# Altium footprint library JLC_25.PcbLib: 76 footprints (part 5 of 5)
Each footprint in its own frame and in the unit in brackets; x right, y up, seen from the top. Pads: shape width x height; smd on the part's side, far side on the other; paste and mask are expansions set on the pad; w line width, h text height; cw(c..) or ccw(c..) is an arc to the next point about the centre after c.
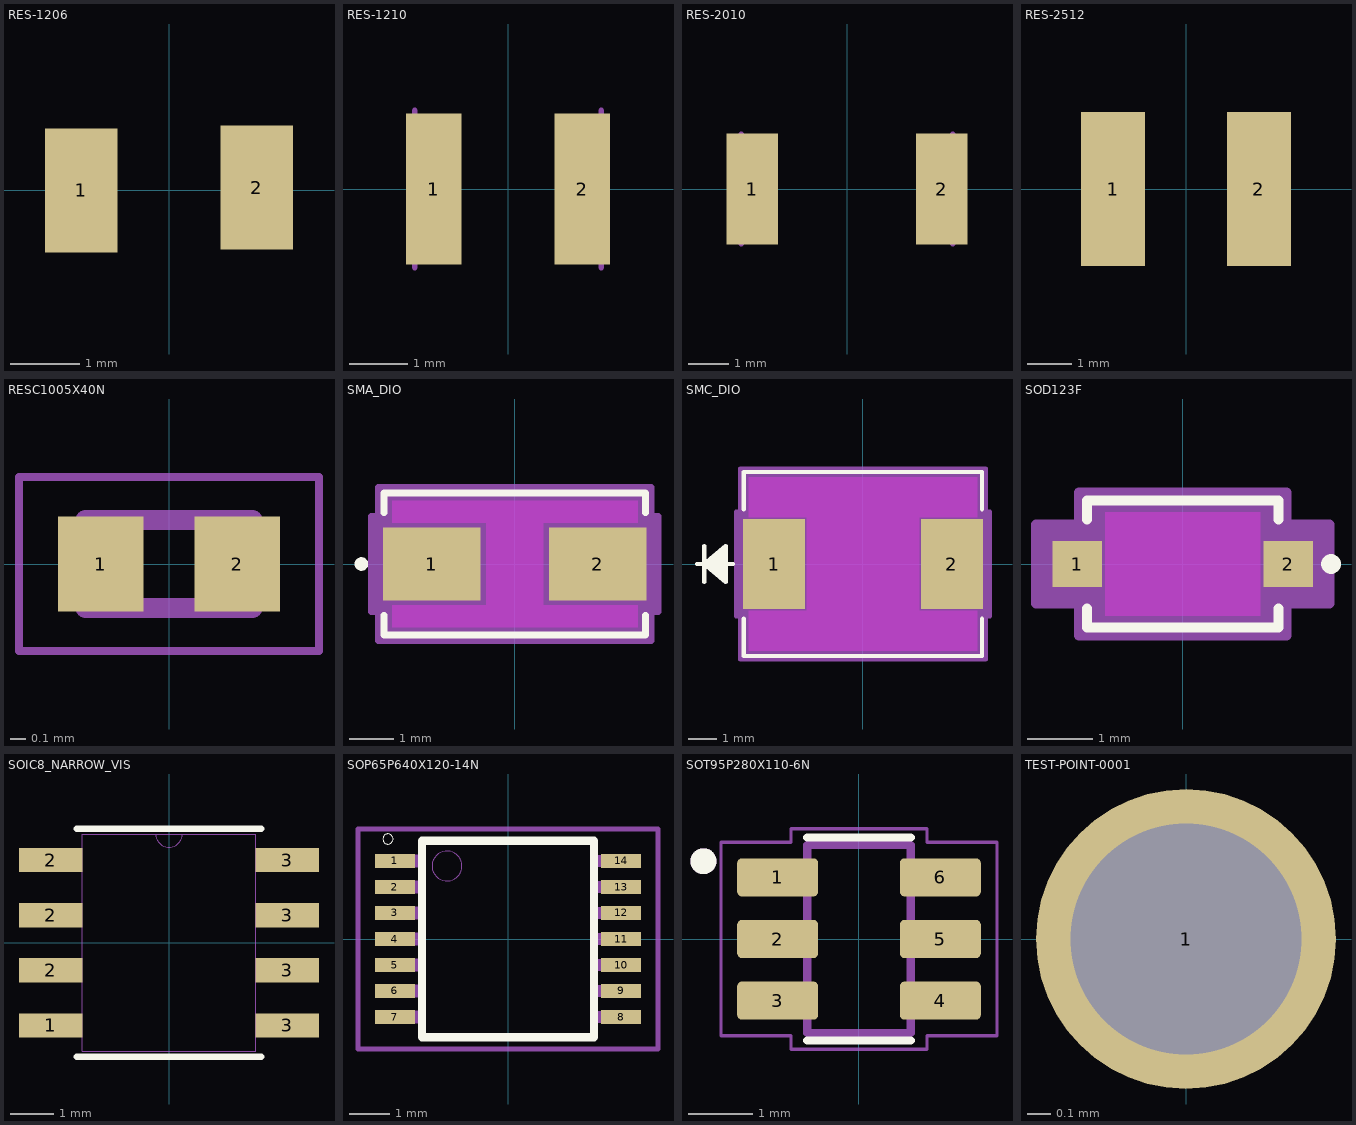
[diagram p4: the footprints below, top view; thin cyan lines are the x and y axes]

## RES-1206 [mm]
pads (2):
  rect 1.05x1.8 smd: 1(-1.275,0) 2(1.275,0.043)
3D body "D25-CRCW1206-IF e3.stp": height 0.55, standoff 0, extent -1.6,-0.775 1.6,0.825

## RES-1210 [mm] "Chip Resistor, 2-Leads, Body 3.10x2.60mm, IPC High Density"
height 0.6
pads (2):
  rect 0.95x2.6 smd: 1(-1.275,0) 2(1.275,0)
Mechanical 13:
  lines w0.1: -1.6,-1.35 -1.6,1.35 ; 1.6,-1.35 1.6,1.35
3D body: height 0.6, standoff 0, extent 1.1,-1.35 1.6,1.35
3D body: height 0.6, standoff 0, extent -1.6,-1.35 -1.1,1.35
3D body: height 0.6, standoff 0, extent -1.1,-1.35 1.1,1.35

## RES-2010 [mm]
pads (2):
  rect 1.26x2.72 smd: 1(-2.325,0) 2(2.325,0)
Mechanical 13:
  lines w0.127: -2.6,-1.35 -2.6,1.35 ; 2.6,-1.35 2.6,1.35
3D body "CR2010-JW-101ELF.STEP": height 0.7, standoff 0, extent -2.5,-1.25 2.5,1.25

## RES-2512 [mm]
pads (2):
  rect 1.45x3.5 smd: 1(-1.65,0) 2(1.65,0)

## RESC1005X40N [mm]
pads (2):
  rect 0.54x0.6 smd: 1(-0.432,0) 2(0.432,0)
Mechanical 13:
  lines w0.127: -0.53,-0.28 0.53,-0.28 0.53,0.28 -0.53,0.28 -0.53,-0.28
Mechanical 15:
  lines w0.05: -0.95,-0.55 0.95,-0.55 0.95,0.55 -0.95,0.55 -0.95,-0.55

## SMA_DIO [mm]
pads (2):
  rect 2.18x1.63 smd paste+0 mask+0: 1(-1.857,0) 2(1.857,0)
Top Layer keep-out:
  region: -2.744,-1.409 -2.744,-0.917 2.744,-0.917 2.744,-1.409
  region: -2.744,0.917 -2.744,1.409 2.744,1.409 2.744,0.917
  region: -0.635,-0.917 -0.635,0.917 0.635,0.917 0.635,-0.917
Top Overlay:
  circle w0.152: c-3.429,0 r0.076
  lines w0.152: -2.922,-1.148 -2.922,-1.587 2.922,-1.587 2.922,-1.148 ; -2.922,1.148 -2.922,1.587 2.922,1.587 2.922,1.148
Keep-Out Layer:
  region: -0.635,-0.866 -0.635,0.866 0.635,0.866 0.635,-0.866
Mechanical 13:
  lines w0.025: -2.795,-1.46 -2.795,1.46 2.795,1.46 2.795,-1.46 -2.795,-1.46
Mechanical 15:
  region: -3.049,-1.069 -3.201,-1.069 -3.201,1.069 -3.049,1.069 -3.049,1.714 3.049,1.714 3.049,1.069 3.201,1.069 3.201,-1.069 3.049,-1.069 3.049,-1.714 -3.049,-1.714
  lines w0.152: -3.201,-1.069 -3.049,-1.069 -3.049,-1.714 3.049,-1.714 3.049,-1.069 3.201,-1.069 3.201,1.069 3.049,1.069 3.049,1.714 -3.049,1.714 -3.049,1.069 -3.201,1.069 -3.201,-1.069
3D body "SMA_DIO.step": height 2.35, standoff 0, extent -2.795,-1.46 2.795,1.46

## SMC_DIO [mm]
pads (2):
  rect 2.18x3.18 smd paste+0 mask+0: 1(-3.127,0) 2(3.127,0)
Top Layer keep-out:
  region: -4.014,-3.059 -4.014,-1.641 4.014,-1.641 4.014,-3.059
  region: -4.014,1.641 -4.014,3.059 4.014,3.059 4.014,1.641
  region: -1.986,-1.641 -1.986,1.641 1.986,1.641 1.986,-1.641
Top Overlay:
  lines w0.152: -5.843,0 -4.573,0 ; -5.589,-0.635 -5.589,0.635 ; -4.827,-0.508 -5.589,0 ; -4.827,-0.381 -5.589,0 ; -4.827,-0.254 -5.589,0 ; -4.827,-0.127 -5.589,0 ; -4.827,0.127 -5.589,0 ; -4.827,0.254 -5.589,0 ; -4.827,0.381 -5.589,0 ; -4.827,0.508 -5.589,0 ; -4.192,-1.923 -4.192,-3.237 4.192,-3.237 4.192,-1.923 ; -4.192,1.923 -4.192,3.237 4.192,3.237 4.192,1.923 ; -5.589,0 -4.827,-0.635 -4.827,0.635 -5.589,0
Keep-Out Layer:
  region: -1.986,-1.641 -1.986,1.641 1.986,1.641 1.986,-1.641
Mechanical 13:
  lines w0.025: -5.843,0 -4.573,0 ; -5.589,-0.635 -5.589,0.635 ; -4.827,-0.508 -5.589,0 ; -4.827,-0.381 -5.589,0 ; -4.827,-0.254 -5.589,0 ; -4.827,-0.127 -5.589,0 ; -4.827,0.127 -5.589,0 ; -4.827,0.254 -5.589,0 ; -4.827,0.381 -5.589,0 ; -4.827,0.508 -5.589,0 ; -5.589,0 -4.827,-0.635 -4.827,0.635 -5.589,0 ; -4.065,-3.11 -4.065,3.11 4.065,3.11 4.065,-3.11 -4.065,-3.11
Mechanical 15:
  region: -4.319,-1.844 -4.471,-1.844 -4.471,1.844 -4.319,1.844 -4.319,3.364 4.319,3.364 4.319,1.844 4.471,1.844 4.471,-1.844 4.319,-1.844 4.319,-3.364 -4.319,-3.364
  lines w0.152: -4.471,-1.844 -4.319,-1.844 -4.319,-3.364 4.319,-3.364 4.319,-1.844 4.471,-1.844 4.471,1.844 4.319,1.844 4.319,3.364 -4.319,3.364 -4.319,1.844 -4.471,1.844 -4.471,-1.844
3D body "SMC_DIO.step": height 2.45, standoff 0, extent -4.065,-3.11 4.065,3.11

## SOD123F [mil]
pads (2):
  rect 30x28 smd paste+0 mask+0: 1(-64,0) 2(64,0)
Top Layer keep-out:
  region: -47,-31.5 -47,31.5 47,31.5 47,-31.5
Top Overlay:
  circle w6: c90,0 r3
  lines w6: -58,-27.1 -58,-38.5 58,-38.5 58,-27.1 ; -58,27.1 -58,38.5 58,38.5 58,27.1
Keep-Out Layer:
  region: -47,-31.5 -47,31.5 47,31.5 47,-31.5
Mechanical 13:
  lines w1: -71,-14 -71,14 -53,14 -53,-14 -71,-14 ; -53,-33.5 53,-33.5 53,33.5 -53,33.5 -53,-33.5 ; 53,-14 53,14 71,14 71,-14 53,-14
Mechanical 15:
  region: -63,-24 -89,-24 -89,24 -63,24 -63,43.5 63,43.5 63,24 89,24 89,-24 63,-24 63,-43.5 -63,-43.5
  lines w6: -89,-24 -89,24 -63,24 -63,43.5 63,43.5 63,24 89,24 89,-24 63,-24 63,-43.5 -63,-43.5 -63,-24 -89,-24
3D body "SDO_SOD123F_NEX.step": height 47.24, standoff 0, extent -70.98,-33.5 70.98,33.5

## SOIC8_NARROW_VIS [mil]
pads (8):
  rect 57.5x22 smd paste+0 mask+0: 1(-107.25,-75) 2(-107.25,-25) 2(-107.25,25) 2(-107.25,75) 3(107.25,-75) 3(107.25,-25) 3(107.25,25) 3(107.25,75)
Top Overlay:
  lines w6: -83.5,-103.5 83.5,-103.5 ; -83.5,103.5 83.5,103.5
Mechanical 13:
  lines w0: -12,98.5 ccw(c0,98.5) 12,98.5
  lines w1: -122,-85 -122,-65 -78.5,-65 -78.5,-85 -122,-85 ; -122,-35 -122,-15 -78.5,-15 -78.5,-35 -122,-35 ; -122,15 -122,35 -78.5,35 -78.5,15 -122,15 ; -122,65 -122,85 -78.5,85 -78.5,65 -122,65 ; -78.5,-98.5 78.5,-98.5 78.5,98.5 -78.5,98.5 -78.5,-98.5 ; 78.5,-85 78.5,-65 122,-65 122,-85 78.5,-85 ; 78.5,-35 78.5,-15 122,-15 122,-35 78.5,-35 ; 78.5,15 78.5,35 122,35 122,15 78.5,15 ; 78.5,65 78.5,85 122,85 122,65 78.5,65
3D body "SOIC8_NARROW_VIS.step": height 69.09, standoff 0, extent -122.01,-98.5 122.01,98.5

## SOP65P640X120-14N [mm]
pads (14):
  rect 1x0.35 smd: 1(-2.825,1.95) 2(-2.825,1.3) 3(-2.825,0.65) 4(-2.825,0) 5(-2.825,-0.65) 6(-2.825,-1.3) 7(-2.825,-1.95) 8(2.825,-1.95) 9(2.825,-1.3) 10(2.825,-0.65) 11(2.825,0) 12(2.825,0.65) 13(2.825,1.3) 14(2.825,1.95)
Top Overlay:
  circle w0: c-3,2.5 r0.127
  lines w0.203: -2.15,-2.455 -2.15,2.455 2.15,2.455 2.15,-2.455 -2.15,-2.455
Mechanical 13:
  circle w0: c-1.525,1.825 r0.375
  region: -2.227,1.799 -3.201,1.799 -3.201,2.102 -2.227,2.102
  region: -2.227,1.149 -3.201,1.149 -3.201,1.452 -2.227,1.452
  region: -2.225,0.5 -3.2,0.5 -3.2,0.8 -2.225,0.8
  region: -2.226,-0.151 -3.201,-0.151 -3.201,0.151 -2.226,0.151
  region: -2.226,-0.802 -3.202,-0.802 -3.202,-0.499 -2.226,-0.499
  region: -2.226,-1.455 -3.205,-1.455 -3.205,-1.149 -2.226,-1.149
  region: -2.225,-2.101 -3.201,-2.101 -3.201,-1.8 -2.225,-1.8
  region: 3.205,-2.1 2.225,-2.1 2.225,-1.805 3.205,-1.805
  region: 3.201,-1.45 2.225,-1.45 2.225,-1.151 3.201,-1.151
  region: 3.201,-0.8 2.225,-0.8 2.225,-0.501 3.201,-0.501
  region: 3.203,-0.148 2.227,-0.148 2.227,0.147 3.203,0.147
  region: 3.201,0.501 2.226,0.501 2.226,0.799 3.201,0.799
  region: 3.2,1.15 2.225,1.15 2.225,1.45 3.2,1.45
  region: 3.2,1.801 2.226,1.801 2.226,2.1 3.2,2.1
Mechanical 15:
  lines w0.127: -3.75,-2.75 3.75,-2.75 3.75,2.75 -3.75,2.75 -3.75,-2.75
3D body "step_temp.STEP": height 1.2, standoff 0, extent -3.2,-2.5 3.2,2.5

## SOT95P280X110-6N [mm]
height 1.1
pads (6):
  rrect25% 1.25x0.59 smd: 1(-1.255,0.95) 2(-1.255,0) 3(-1.255,-0.95) 4(1.255,-0.95) 5(1.255,0) 6(1.255,0.95)
Top Overlay:
  circle w0.2: c-2.4,1.2 r0.1
  lines w0.127: -0.8,-1.565 0.8,-1.565 ; -0.8,1.565 0.8,1.565
Mechanical 13:
  circle w0.2: c-2.4,1.2 r0.1
  lines w0.127: -0.8,-1.45 -0.8,1.45 0.8,1.45 0.8,-1.45 -0.8,-1.45
Mechanical 15:
  lines w0.05: -2.13,-1.495 -2.13,1.495 -1.05,1.495 -1.05,1.7 1.05,1.7 1.05,1.495 2.13,1.495 2.13,-1.495 1.05,-1.495 1.05,-1.7 -1.05,-1.7 -1.05,-1.495 -2.13,-1.495
3D body "step_temp.STEP": height 1.1, standoff 0, extent -1.4,-1.45 1.4,1.45

## TEST-POINT-0001 [mm] "2024 miniature test point"
pads (1):
  round 1.3 hole 1: 1(0,0)
3D body "5003--3DModel-STEP-630548.STEP": height 4.57, standoff -3.05, extent -1.27,-1.27 1.27,1.27